# Altium schematic symbol library antenna.SchLib: 1 symbol
Pins are listed as number, name and electrical type; pins without a type are passive.

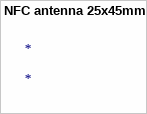
[diagram p0: symbol NFC antenna 25x45mm]

## NFC antenna 25x45mm
designator *
Designator: ANT?